# Altium footprint library BTN8982TA.PcbLib: 1 footprints
Each footprint in its own frame and in the unit in brackets; x right, y up, seen from the top. Pads: shape width x height; smd on the part's side, far side on the other; paste and mask are expansions set on the pad; w line width, h text height; cw(c..) or ccw(c..) is an arc to the next point about the centre after c.
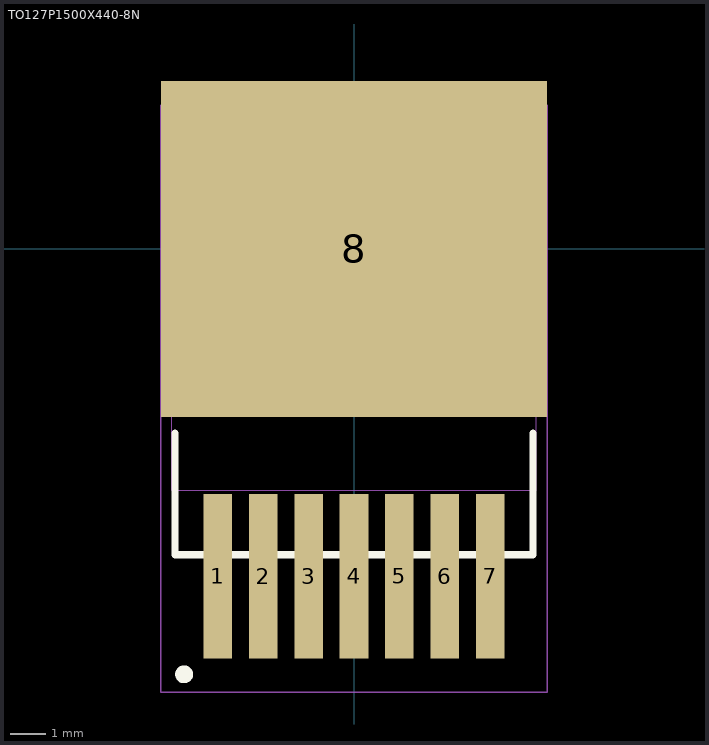
[diagram p0: the footprint, top view; thin cyan lines are the x and y axes]

## TO127P1500X440-8N [mm]
pads (8):
  rect 0.8x4.6 smd: 1(-3.81,-9.15) 2(-2.54,-9.15) 3(-1.27,-9.15) 4(0,-9.15) 5(1.27,-9.15) 6(2.54,-9.15) 7(3.81,-9.15)
  rect 10.8x9.4 smd: 8(0,0)
Top Overlay:
  circle w0.25: c-4.75,-11.891 r0.125
  lines w0.2: -5,-5.149 -5,-8.549 5,-8.549 5,-5.149
Mechanical 15:
  circle w0.05: c0,0 r0.35
  lines w0.001: -5.1,-6.741 5.1,-6.741 5.1,2.709 -5.1,2.709 -5.1,-6.741
  lines w0.05: -0.5,0 0.5,0 ; 0,-0.5 0,0.5 ; -5.4,-12.391 5.4,-12.391 5.4,4.009 -5.4,4.009 -5.4,-12.391
3D body "TO263-7-1.STEP": height 4.78, standoff -0.02, extent -4.746,-11.086 5.254,4.584